# Altium footprint library SOIC8-L.PcbLib: 1 footprints
Each footprint in its own frame and in the unit in brackets; x right, y up, seen from the top. Pads: shape width x height; smd on the part's side, far side on the other; paste and mask are expansions set on the pad; w line width, h text height; cw(c..) or ccw(c..) is an arc to the next point about the centre after c.
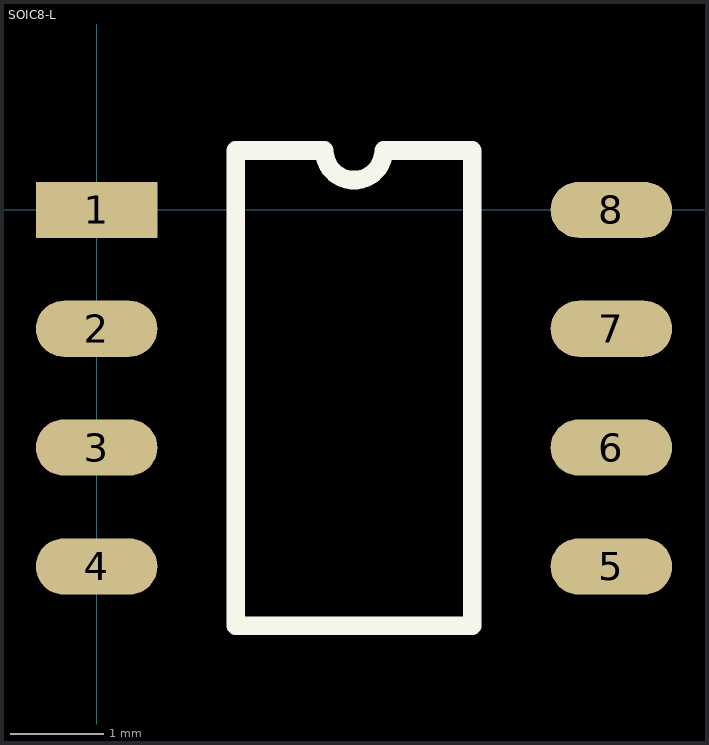
[diagram p0: the footprint, top view; thin cyan lines are the x and y axes]

## SOIC8-L [mm]
pads (8):
  rect 1.3x0.6 smd: 1(0,0)
  oval 1.3x0.6 smd: 2(0,-1.27) 3(0,-2.54) 4(0,-3.81) 5(5.5,-3.81) 6(5.5,-2.54) 7(5.5,-1.27) 8(5.5,0)
Top Overlay:
  lines w0.2: 1.485,-4.445 4.015,-4.445 4.015,0.635 3.067,0.635 cw(c2.75,0.635) 2.432,0.635 1.485,0.635 1.485,-4.445